# Altium schematic symbol library Connectors.SchLib: 59 symbols
Pins are listed as number, name and electrical type; pins without a type are passive.

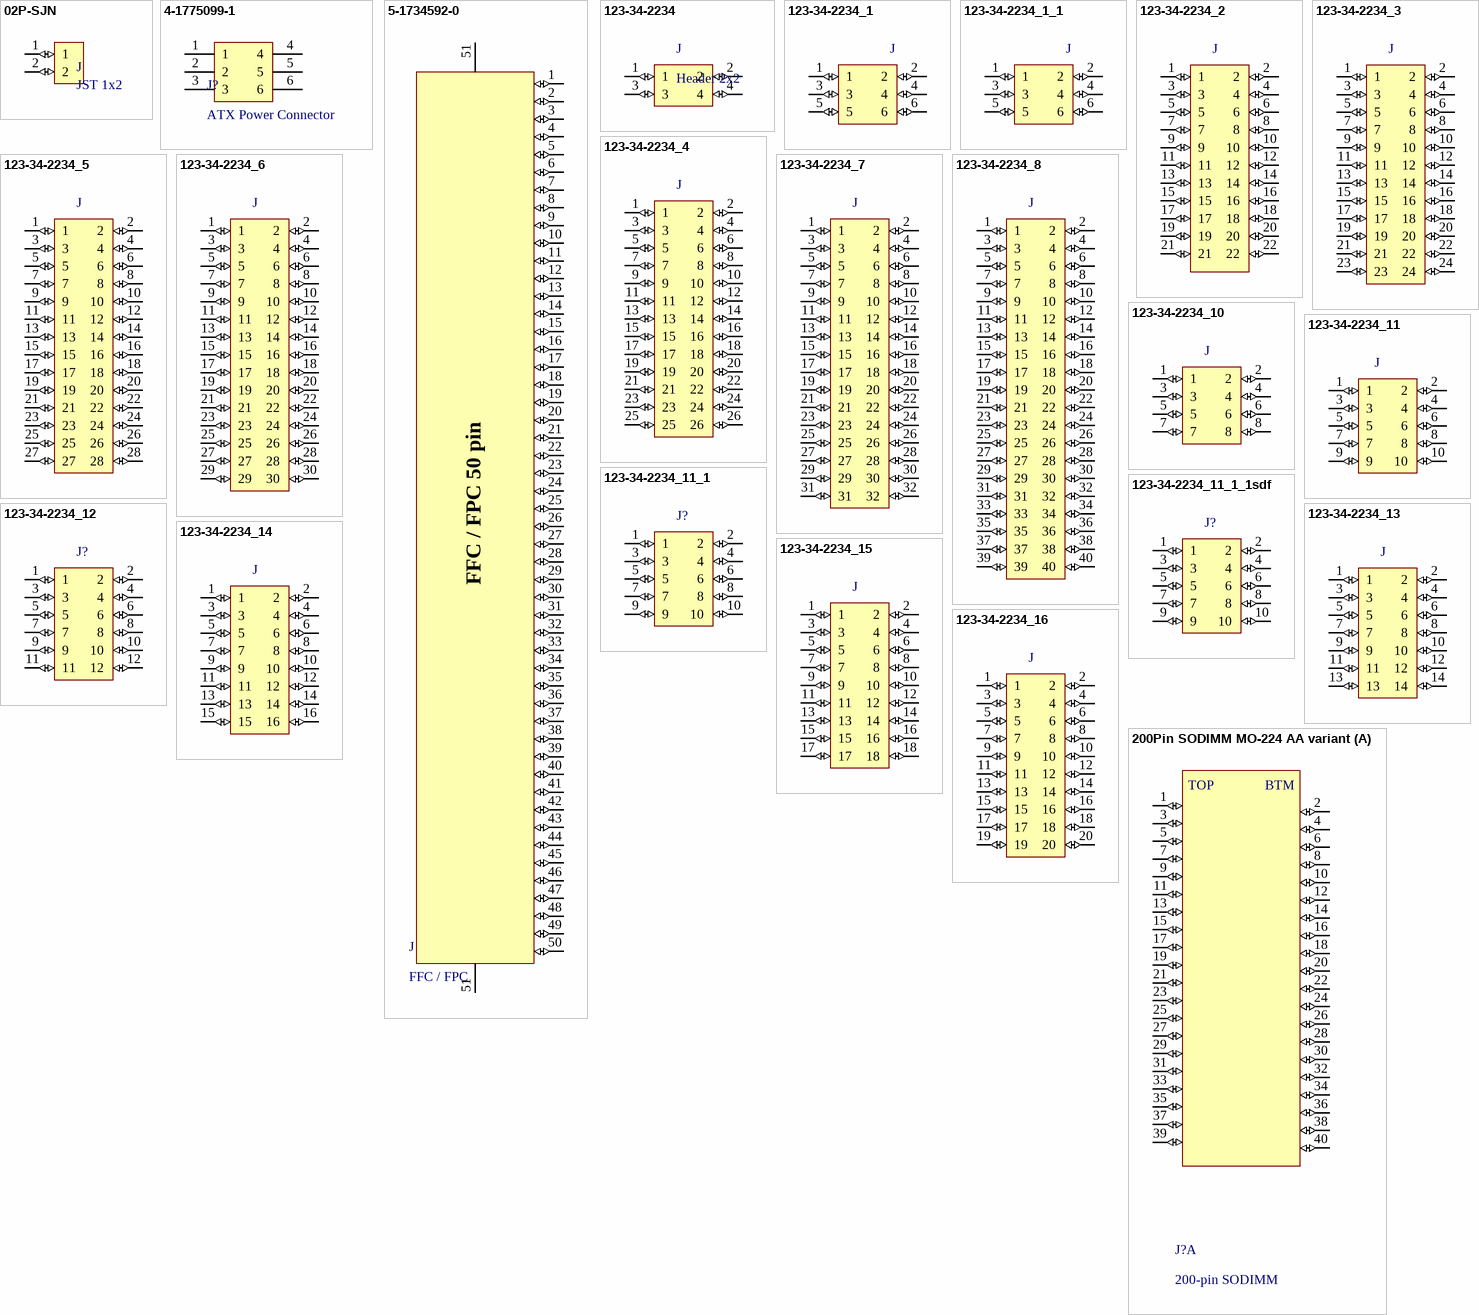
[diagram p0: symbols 02P-SJN to 200Pin SODIMM MO-224 AA variant]

## 02P-SJN
designator J, comment JST 1x2
JST 1x2 2mm female
footprint JST 1x2 2mm
pins: 1 (io), 2 (io)

## 4-1775099-1
designator J?, comment ATX Power Connector
ATX Power Connector 6 pin; Supplier 1: Digi-Key; Supplier Part Number 1: A128802-ND
footprint 4-1775099-1
pins: 1, 2, 3, 4, 5, 6

## 5-1734592-0
designator J, comment FFC / FPC
FFC / FPC 50 pins 0.5mm pitch; Supplier 1: Farnell; Supplier Part Number 1: 2528036
footprint 5-1734592-0 (FFC / FPC)
pins: 1 55 (io), 2 56 (io), 3 57 (io), 4 58 (io), 5 59 (io), 6 60 (io), 7 61 (io), 8 62 (io), 9 63 (io), 10 64 (io), 11 65 (io), 12 66 (io), 13 67 (io), 14 68 (io), 15 69 (io), 16 70 (io), 17 71 (io), 18 72 (io), 19 73 (io), 20 74 (io), 21 75 (io), 22 76 (io), 23 77 (io), 24 78 (io), 25 79 (io), 26 80 (io), 27 81 (io), 28 82 (io), 29 83 (io), 30 84 (io), 31 85 (io), 32 86 (io), 33 87 (io), 34 88 (io), 35 89 (io), 36 90 (io), 37 91 (io), 38 92 (io), 39 93 (io), 40 94 (io), 41 95 (io), 42 96 (io), 43 97 (io), 44 98 (io), 45 99 (io), 46 100 (io), 47 101 (io), 48 102 (io), 49 103 (io), 50 104 (io), 51 105 (power), 51 105 (power)
text: FFC / FPC 50 pin

## 123-34-2234
designator J, comment Header 2x2
Header 2x2 male 2.54mm
footprint Header 2x2 male
pins: 1 (io), 2 (io), 3 (io), 4 (io)

## 123-34-2234_1
designator J
Header 2x3 male 2.54mm
footprint Header 2x3 male
pins: 1 (io), 2 (io), 3 (io), 4 (io), 5 (io), 6 (io)

## 123-34-2234_1_1
designator J
Header 2x3 pad 2.54mm
footprint Header 2x3 male pad
pins: 1 (io), 2 (io), 3 (io), 4 (io), 5 (io), 6 (io)

## 123-34-2234_2
designator J
Header 2x11 male 2.54mm
footprint Header 2x11 male
pins: 1 (io), 2 (io), 3 (io), 4 (io), 5 (io), 6 (io), 7 (io), 8 (io), 9 (io), 10 (io), 11 (io), 12 (io), 13 (io), 14 (io), 15 (io), 16 (io), 17 (io), 18 (io), 19 (io), 20 (io), 21 (io), 22 (io)

## 123-34-2234_3
designator J
Header 2x12 male 2.54mm
footprint Header 2x12 male
pins: 1 (io), 2 (io), 3 (io), 4 (io), 5 (io), 6 (io), 7 (io), 8 (io), 9 (io), 10 (io), 11 (io), 12 (io), 13 (io), 14 (io), 15 (io), 16 (io), 17 (io), 18 (io), 19 (io), 20 (io), 21 (io), 22 (io), 23 (io), 24 (io)

## 123-34-2234_4
designator J
Header 2x13 male 2.54mm
footprint Header 2x13 male
pins: 1 (io), 2 (io), 3 (io), 4 (io), 5 (io), 6 (io), 7 (io), 8 (io), 9 (io), 10 (io), 11 (io), 12 (io), 13 (io), 14 (io), 15 (io), 16 (io), 17 (io), 18 (io), 19 (io), 20 (io), 21 (io), 22 (io), 23 (io), 24 (io), 25 (io), 26 (io)

## 123-34-2234_5
designator J
Header 2x14 male 2.54mm
footprint Header 2x14 male
pins: 1 (io), 2 (io), 3 (io), 4 (io), 5 (io), 6 (io), 7 (io), 8 (io), 9 (io), 10 (io), 11 (io), 12 (io), 13 (io), 14 (io), 15 (io), 16 (io), 17 (io), 18 (io), 19 (io), 20 (io), 21 (io), 22 (io), 23 (io), 24 (io), 25 (io), 26 (io), 27 (io), 28 (io)

## 123-34-2234_6
designator J
Header 2x15 male 2.54mm
footprint Header 2x15 male
pins: 1 (io), 2 (io), 3 (io), 4 (io), 5 (io), 6 (io), 7 (io), 8 (io), 9 (io), 10 (io), 11 (io), 12 (io), 13 (io), 14 (io), 15 (io), 16 (io), 17 (io), 18 (io), 19 (io), 20 (io), 21 (io), 22 (io), 23 (io), 24 (io), 25 (io), 26 (io), 27 (io), 28 (io), 29 (io), 30 (io)

## 123-34-2234_7
designator J
Header 2x16 male 2.54mm
footprint Header 2x16 male
pins: 1 (io), 2 (io), 3 (io), 4 (io), 5 (io), 6 (io), 7 (io), 8 (io), 9 (io), 10 (io), 11 (io), 12 (io), 13 (io), 14 (io), 15 (io), 16 (io), 17 (io), 18 (io), 19 (io), 20 (io), 21 (io), 22 (io), 23 (io), 24 (io), 25 (io), 26 (io), 27 (io), 28 (io), 29 (io), 30 (io), 31 (io), 32 (io)

## 123-34-2234_8
designator J
Header 2x20 male 2.54mm
footprint Header 2x20 male
pins: 1 (io), 2 (io), 3 (io), 4 (io), 5 (io), 6 (io), 7 (io), 8 (io), 9 (io), 10 (io), 11 (io), 12 (io), 13 (io), 14 (io), 15 (io), 16 (io), 17 (io), 18 (io), 19 (io), 20 (io), 21 (io), 22 (io), 23 (io), 24 (io), 25 (io), 26 (io), 27 (io), 28 (io), 29 (io), 30 (io), 31 (io), 32 (io), 33 (io), 34 (io), 35 (io), 36 (io), 37 (io), 38 (io), 39 (io), 40 (io)

## 123-34-2234_10
designator J
Header 2x4 male 2.54mm
footprint Header 2x4 male
pins: 1 (io), 2 (io), 3 (io), 4 (io), 5 (io), 6 (io), 7 (io), 8 (io)

## 123-34-2234_11
designator J
Header 2x5 male 2.54mm
footprint Header 2x5 male
pins: 1 (io), 2 (io), 3 (io), 4 (io), 5 (io), 6 (io), 7 (io), 8 (io), 9 (io), 10 (io)

## 123-34-2234_11_1
designator J?
Header 2x5 male 1.27mm
footprint Header 2x5 male 1.27mm
pins: 1 (io), 2 (io), 3 (io), 4 (io), 5 (io), 6 (io), 7 (io), 8 (io), 9 (io), 10 (io)

## 123-34-2234_11_1_1sdf
designator J?
Header 2x5 male 1.27mm pads
footprint Header 2x5 male 1.27mm test points
pins: 1 (io), 2 (io), 3 (io), 4 (io), 5 (io), 6 (io), 7 (io), 8 (io), 9 (io), 10 (io)

## 123-34-2234_12
designator J?
Header 2x6 male 2.54mm
footprint Header 2x6 male
pins: 1 (io), 2 (io), 3 (io), 4 (io), 5 (io), 6 (io), 7 (io), 8 (io), 9 (io), 10 (io), 11 (io), 12 (io)

## 123-34-2234_13
designator J
Header 2x7 male 2.54mm
footprint Header 2x7 male
pins: 1 (io), 2 (io), 3 (io), 4 (io), 5 (io), 6 (io), 7 (io), 8 (io), 9 (io), 10 (io), 11 (io), 12 (io), 13 (io), 14 (io)

## 123-34-2234_14
designator J
Header 2x8 male 2.54mm
footprint Header 2x8 male
pins: 1 (io), 2 (io), 3 (io), 4 (io), 5 (io), 6 (io), 7 (io), 8 (io), 9 (io), 10 (io), 11 (io), 12 (io), 13 (io), 14 (io), 15 (io), 16 (io)

## 123-34-2234_15
designator J
Header 2x9 male 2.54mm
footprint Header 2x9 male
pins: 1 (io), 2 (io), 3 (io), 4 (io), 5 (io), 6 (io), 7 (io), 8 (io), 9 (io), 10 (io), 11 (io), 12 (io), 13 (io), 14 (io), 15 (io), 16 (io), 17 (io), 18 (io)

## 123-34-2234_16
designator J
Header 2x10 male 2.54mm
footprint Header 2x10 male
pins: 1 (io), 2 (io), 3 (io), 4 (io), 5 (io), 6 (io), 7 (io), 8 (io), 9 (io), 10 (io), 11 (io), 12 (io), 13 (io), 14 (io), 15 (io), 16 (io), 17 (io), 18 (io), 19 (io), 20 (io)

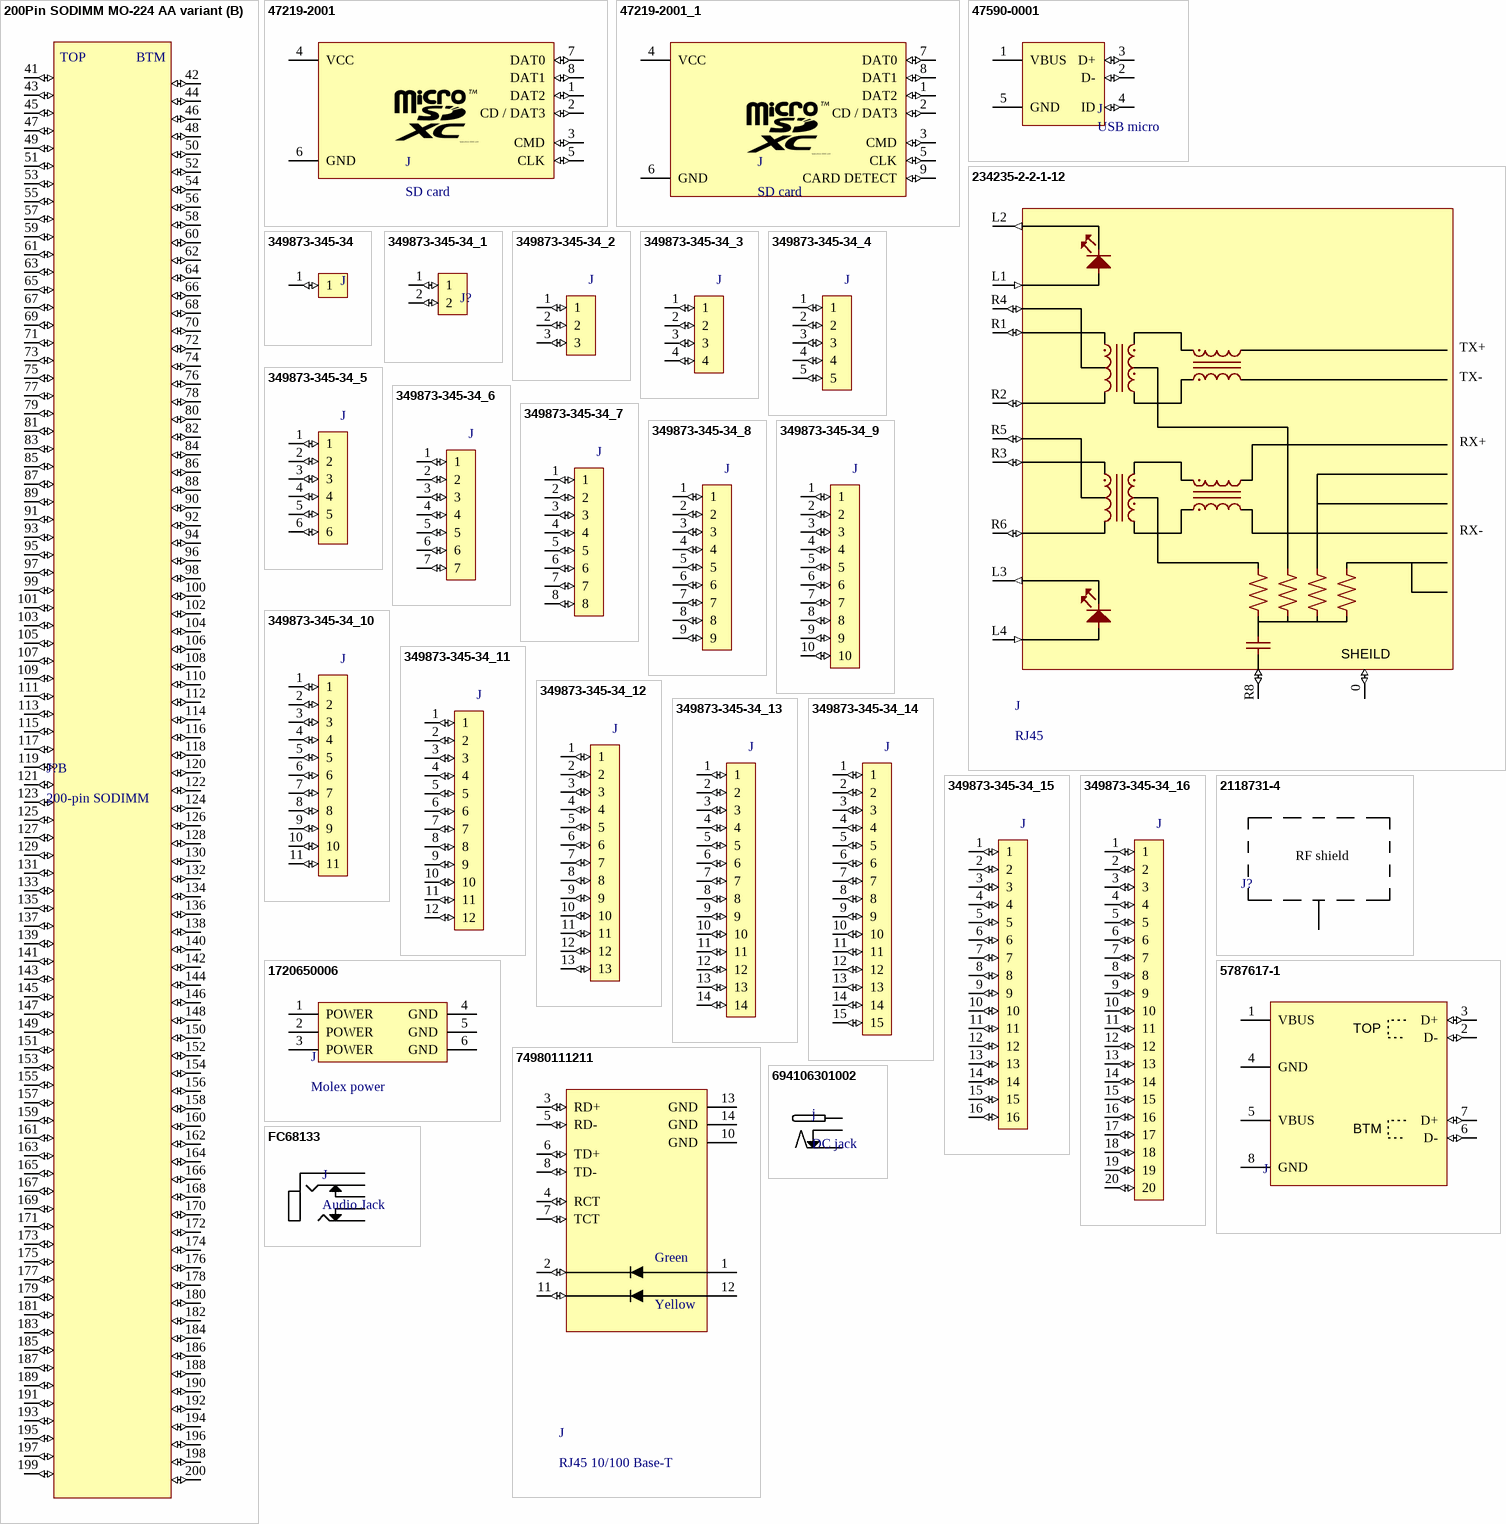
[diagram p1: symbols 200Pin SODIMM MO-224 AA variant to FC68133]

## 200Pin SODIMM MO-224 AA variant
designator J?, comment 200-pin SODIMM
200Pin SODIMM MO-224 AA variant
footprint 200Pin SODIMM MO-224 AA variant
part A pins: 1 (io), 2 (io), 3 (io), 4 (io), 5 (io), 6 (io), 7 (io), 8 (io), 9 (io), 10 (io), 11 (io), 12 (io), 13 (io), 14 (io), 15 (io), 16 (io), 17 (io), 18 (io), 19 (io), 20 (io), 21 (io), 22 (io), 23 (io), 24 (io), 25 (io), 26 (io), 27 (io), 28 (io), 29 (io), 30 (io), 31 (io), 32 (io), 33 (io), 34 (io), 35 (io), 36 (io), 37 (io), 38 (io), 39 (io), 40 (io)
part B pins: 41 (io), 42 (io), 43 (io), 44 (io), 45 (io), 46 (io), 47 (io), 48 (io), 49 (io), 50 (io), 51 (io), 52 (io), 53 (io), 54 (io), 55 (io), 56 (io), 57 (io), 58 (io), 59 (io), 60 (io), 61 (io), 62 (io), 63 (io), 64 (io), 65 (io), 66 (io), 67 (io), 68 (io), 69 (io), 70 (io), 71 (io), 72 (io), 73 (io), 74 (io), 75 (io), 76 (io), 77 (io), 78 (io), 79 (io), 80 (io), 81 (io), 82 (io), 83 (io), 84 (io), 85 (io), 86 (io), 87 (io), 88 (io), 89 (io), 90 (io), 91 (io), 92 (io), 93 (io), 94 (io), 95 (io), 96 (io), 97 (io), 98 (io), 99 (io), 100 (io), 101 (io), 102 (io), 103 (io), 104 (io), 105 (io), 106 (io), 107 (io), 108 (io), 109 (io), 110 (io), 111 (io), 112 (io), 113 (io), 114 (io), 115 (io), 116 (io), 117 (io), 118 (io), 119 (io), 120 (io), 121 (io), 122 (io), 123 (io), 124 (io), 125 (io), 126 (io), 127 (io), 128 (io), 129 (io), 130 (io), 131 (io), 132 (io), 133 (io), 134 (io), 135 (io), 136 (io), 137 (io), 138 (io), 139 (io), 140 (io), 141 (io), 142 (io), 143 (io), 144 (io), 145 (io), 146 (io), 147 (io), 148 (io), 149 (io), 150 (io), 151 (io), 152 (io), 153 (io), 154 (io), 155 (io), 156 (io), 157 (io), 158 (io), 159 (io), 160 (io), 161 (io), 162 (io), 163 (io), 164 (io), 165 (io), 166 (io), 167 (io), 168 (io), 169 (io), 170 (io), 171 (io), 172 (io), 173 (io), 174 (io), 175 (io), 176 (io), 177 (io), 178 (io), 179 (io), 180 (io), 181 (io), 182 (io), 183 (io), 184 (io), 185 (io), 186 (io), 187 (io), 188 (io), 189 (io), 190 (io), 191 (io), 192 (io), 193 (io), 194 (io), 195 (io), 196 (io), 197 (io), 198 (io), 199 (io), 200 (io)
part A text: TOP; BTM
part B text: TOP; BTM

## 47219-2001
designator J, comment SD card
SD micro card; Supplier Part Number 1: 2614940; Supplier 1: Farnell
footprint 47219-2001
pins: 1 DAT2 (io), 2 CD / DAT3 (io), 3 CMD (io), 4 VCC (power), 5 CLK (io), 6 GND (power), 7 DAT0 (io), 8 DAT1 (io)

## 47219-2001_1
designator J, comment SD card
SD micro card push push; Supplier Part Number 1: 2614940; Supplier 1: Farnell
footprint SD card push push
pins: 1 DAT2 (io), 2 CD / DAT3 (io), 3 CMD (io), 4 VCC (power), 5 CLK (io), 6 GND (power), 7 DAT0 (io), 8 DAT1 (io), 9 CARD DETECT (io)

## 47590-0001
designator J, comment USB micro
USB B micro; Supplier Part Number 1: 1568022; Supplier 1: Farnell
footprint USB micro
pins: 1 VBUS, 2 D- (io), 3 D+ (io), 4 ID (io), 5 GND

## 234235-2-2-1-12
designator J, comment RJ45
RJ45 8P8C LED & magnetics; Supplier 1: Digi-Key; Supplier Part Number 1: RJMG1BD3B8K1ANR-ND
footprint RJ45 8P8C LED & magnetics
pins: 0 (io), 1, 1, 2, 2, L1 (in), L2 (out), L3 (out), L4 (in), R1 (io), R2 (io), R3 (io), R4 (io), R5 (io), R6 (io), R8 (io)
text: TX+; TX-; RX+; RX-; SHEILD

## 349873-345-34
designator J
Header 1x1 male 2.54mm
footprint Header 1x1 male
pins: 1 (io)

## 349873-345-34_1
designator J?
Header 1x2 male 2.54mm
footprint Header 1x2 male
pins: 1 (io), 2 (io)

## 349873-345-34_2
designator J
Header 1x3 male 2.54mm
footprint Header 1x3 male
pins: 1 (io), 2 (io), 3 (io)

## 349873-345-34_3
designator J
Header 1x4 male 2.54mm
footprint Header 1x4 male
pins: 1 (io), 2 (io), 3 (io), 4 (io)

## 349873-345-34_4
designator J
Header 1x5 male 2.54mm
footprint Header 1x5 male
pins: 1 (io), 2 (io), 3 (io), 4 (io), 5 (io)

## 349873-345-34_5
designator J
Header 1x6 male 2.54mm
footprint Header 1x6 male
pins: 1 (io), 2 (io), 3 (io), 4 (io), 5 (io), 6 (io)

## 349873-345-34_6
designator J
Header 1x7 male 2.54mm
footprint Header 1x7 male
pins: 1 (io), 2 (io), 3 (io), 4 (io), 5 (io), 6 (io), 7 (io)

## 349873-345-34_7
designator J
Header 1x8 male 2.54mm
footprint Header 1x8 male
pins: 1 (io), 2 (io), 3 (io), 4 (io), 5 (io), 6 (io), 7 (io), 8 (io)

## 349873-345-34_8
designator J
Header 1x9 male 2.54mm
footprint Header 1x9 male
pins: 1 (io), 2 (io), 3 (io), 4 (io), 5 (io), 6 (io), 7 (io), 8 (io), 9 (io)

## 349873-345-34_9
designator J
Header 1x10 male 2.54mm
footprint Header 1x10 male
pins: 1 (io), 2 (io), 3 (io), 4 (io), 5 (io), 6 (io), 7 (io), 8 (io), 9 (io), 10 (io)

## 349873-345-34_10
designator J
Header 1x11 male 2.54mm
footprint Header 1x11 male
pins: 1 (io), 2 (io), 3 (io), 4 (io), 5 (io), 6 (io), 7 (io), 8 (io), 9 (io), 10 (io), 11 (io)

## 349873-345-34_11
designator J
Header 1x12 male 2.54mm
footprint Header 1x12 male
pins: 1 (io), 2 (io), 3 (io), 4 (io), 5 (io), 6 (io), 7 (io), 8 (io), 9 (io), 10 (io), 11 (io), 12 (io)

## 349873-345-34_12
designator J
Header 1x13 male 2.54mm
footprint Header 1x14 male
pins: 1 (io), 2 (io), 3 (io), 4 (io), 5 (io), 6 (io), 7 (io), 8 (io), 9 (io), 10 (io), 11 (io), 12 (io), 13 (io)

## 349873-345-34_13
designator J
Header 1x14 male 2.54mm
footprint Header 1x14 male
pins: 1 (io), 2 (io), 3 (io), 4 (io), 5 (io), 6 (io), 7 (io), 8 (io), 9 (io), 10 (io), 11 (io), 12 (io), 13 (io), 14 (io)

## 349873-345-34_14
designator J
Header 1x15 male 2.54mm
footprint Header 1x15 male
pins: 1 (io), 2 (io), 3 (io), 4 (io), 5 (io), 6 (io), 7 (io), 8 (io), 9 (io), 10 (io), 11 (io), 12 (io), 13 (io), 14 (io), 15 (io)

## 349873-345-34_15
designator J
Header 1x16 male 2.54mm
footprint Header 1x16 male
pins: 1 (io), 2 (io), 3 (io), 4 (io), 5 (io), 6 (io), 7 (io), 8 (io), 9 (io), 10 (io), 11 (io), 12 (io), 13 (io), 14 (io), 15 (io), 16 (io)

## 349873-345-34_16
designator J
Header 1x20 male 2.54mm
footprint Header 1x20 male
pins: 1 (io), 2 (io), 3 (io), 4 (io), 5 (io), 6 (io), 7 (io), 8 (io), 9 (io), 10 (io), 11 (io), 12 (io), 13 (io), 14 (io), 15 (io), 16 (io), 17 (io), 18 (io), 19 (io), 20 (io)

## 2118731-4
designator J?
RF shield 38.6mm x 51.3mm; Supplier Part Number 1: A126137-ND; Supplier 1: Digi-Key
footprint 2118731-4
pins: 1
text: RF shield

## 5787617-1
designator J
USB A Stacked; Supplier 1: Farnell; Supplier Part Number 1: 1076664
footprint USB A Stacked
pins: 1 VBUS, 2 D- (io), 3 D+ (io), 4 GND, 5 VBUS, 6 D- (io), 7 D+ (io), 8 GND
text: TOP; BTM

## 1720650006
designator J, comment Molex power
Molex power 6 pin TH
footprint 1720650006
pins: 1 POWER, 2 POWER, 3 POWER, 4 GND, 5 GND, 6 GND

## 74980111211
designator J, comment RJ45 10/100 Base-T
RJ45 1 Port SMD 10/100 base-T
footprint 74980111211 (Ethernet)
pins: 1 (power), 2 (io), 3 RD+ (io), 4 RCT (io), 5 RD- (io), 6 TD+ (io), 7 TCT (io), 8 TD- (io), 10 GND (power), 11 (io), 12 (power), 13 GND (power), 14 GND (power)
text: Green; Yellow

## 694106301002
designator j, comment DC jack
DC power jack
footprint DC power jack
pins: 1, 2, 3

## FC68133
designator J, comment Audio Jack
Audio jack flat 5 contacts; Supplier Part Number 1: 2518190; Supplier 1: Farnell
footprint Audio jack flat
pins: 1, 2, 3, 4, 5

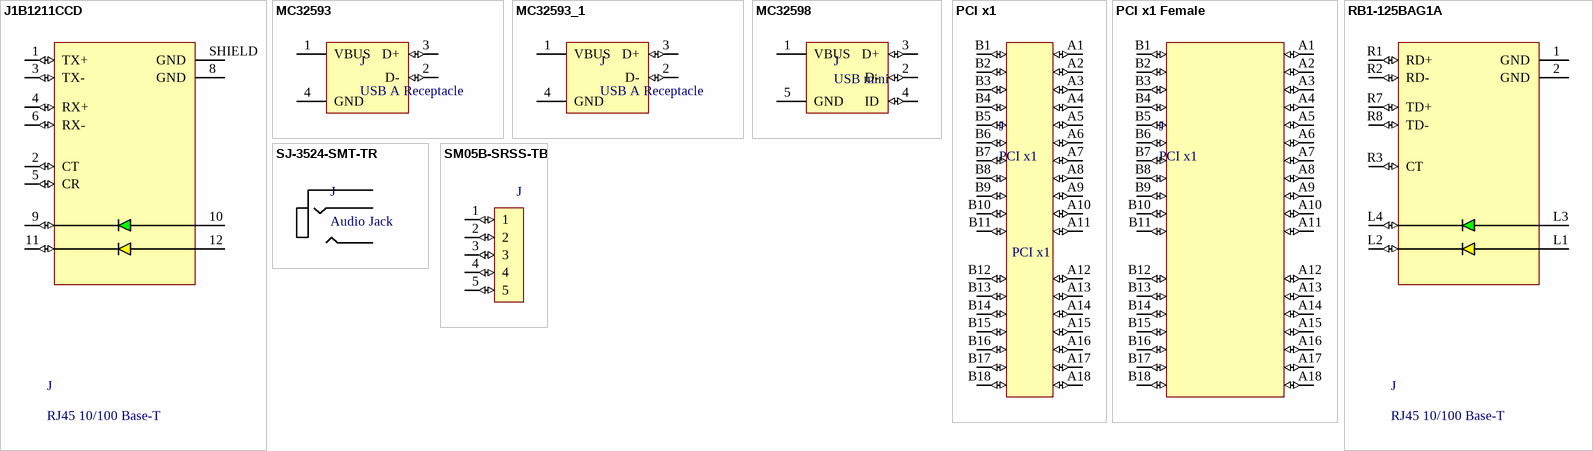
[diagram p2: symbols J1B1211CCD to SM05B-SRSS-TB]

## J1B1211CCD
designator J, comment RJ45 10/100 Base-T
RJ45 1 Port TH 10/100 base-T; Supplier Part Number 1: 1278-1052-ND; Supplier 1: Digi-Key
footprint J1B1211CCD
pins: 1 TX+ (io), 2 CT (io), 3 TX- (io), 4 RX+ (io), 5 CR (io), 6 RX- (io), 8 GND (power), 9 (io), 10 (power), 11 (io), 12 (power), SHIELD GND (power)

## MC32593
designator J, comment USB A Receptacle
USB A; Supplier Part Number 1: 1696534; Supplier 1: Farnell
footprint USB A Socket
pins: 1 VBUS, 2 D- (io), 3 D+ (io), 4 GND

## MC32593_1
designator J, comment USB A Receptacle
USB A Right angle; Supplier Part Number 1: 1860613; Supplier 1: Farnell
footprint USB A Right angle
pins: 1 VBUS, 2 D- (io), 3 D+ (io), 4 GND

## MC32598
designator J, comment USB mini
USB B mini; Supplier Part Number 1: 1696539; Supplier 1: Farnell
footprint USB MINI
pins: 1 VBUS, 2 D- (io), 3 D+ (io), 4 ID (io), 5 GND

## PCI x1
designator J
footprint PCI x1
pins: A1 (io), A2 (io), A3 (io), A4 (io), A5 (io), A6 (io), A7 (io), A8 (io), A9 (io), A10 (io), A11 (io), A12 (io), A13 (io), A14 (io), A15 (io), A16 (io), A17 (io), A18 (io), B1 (io), B2 (io), B3 (io), B4 (io), B5 (io), B6 (io), B7 (io), B8 (io), B9 (io), B10 (io), B11 (io), B12 (io), B13 (io), B14 (io), B15 (io), B16 (io), B17 (io), B18 (io)

## PCI x1 Female
designator J, comment PCI x1
footprint 10018784-10210TLF (PCI x1 Female TH)
pins: A1 (io), A2 (io), A3 (io), A4 (io), A5 (io), A6 (io), A7 (io), A8 (io), A9 (io), A10 (io), A11 (io), A12 (io), A13 (io), A14 (io), A15 (io), A16 (io), A17 (io), A18 (io), B1 (io), B2 (io), B3 (io), B4 (io), B5 (io), B6 (io), B7 (io), B8 (io), B9 (io), B10 (io), B11 (io), B12 (io), B13 (io), B14 (io), B15 (io), B16 (io), B17 (io), B18 (io)

## RB1-125BAG1A
designator J, comment RJ45 10/100 Base-T
RJ45 1 Port SMD 10/100 base-T
footprint RB1-125BAG1A
pins: 1 GND (power), 2 GND (power), L1 (power), L2 (io), L3 (power), L4 (io), R1 RD+ (io), R2 RD- (io), R3 CT (io), R7 TD+ (io), R8 TD- (io)

## SJ-3524-SMT-TR
designator J, comment Audio Jack
Audio jack barrel 3 contacts; Supplier Part Number 1: CP-3524SJCT-ND; Supplier 1: Digi-Key
footprint Audio jack barrel 3 contacts
pins: 1, 2, 3

## SM05B-SRSS-TB
designator J
Motor JST connector 5 pins
footprint SM05B-SRSS-TB
pins: 1 (io), 2 (io), 3 (io), 4 (io), 5 (io)